# Altium footprint library UV16 PDU.PcbLib: 15 footprints
Each footprint in its own frame and in the unit in brackets; x right, y up, seen from the top. Pads: shape width x height; smd on the part's side, far side on the other; paste and mask are expansions set on the pad; w line width, h text height; cw(c..) or ccw(c..) is an arc to the next point about the centre after c.
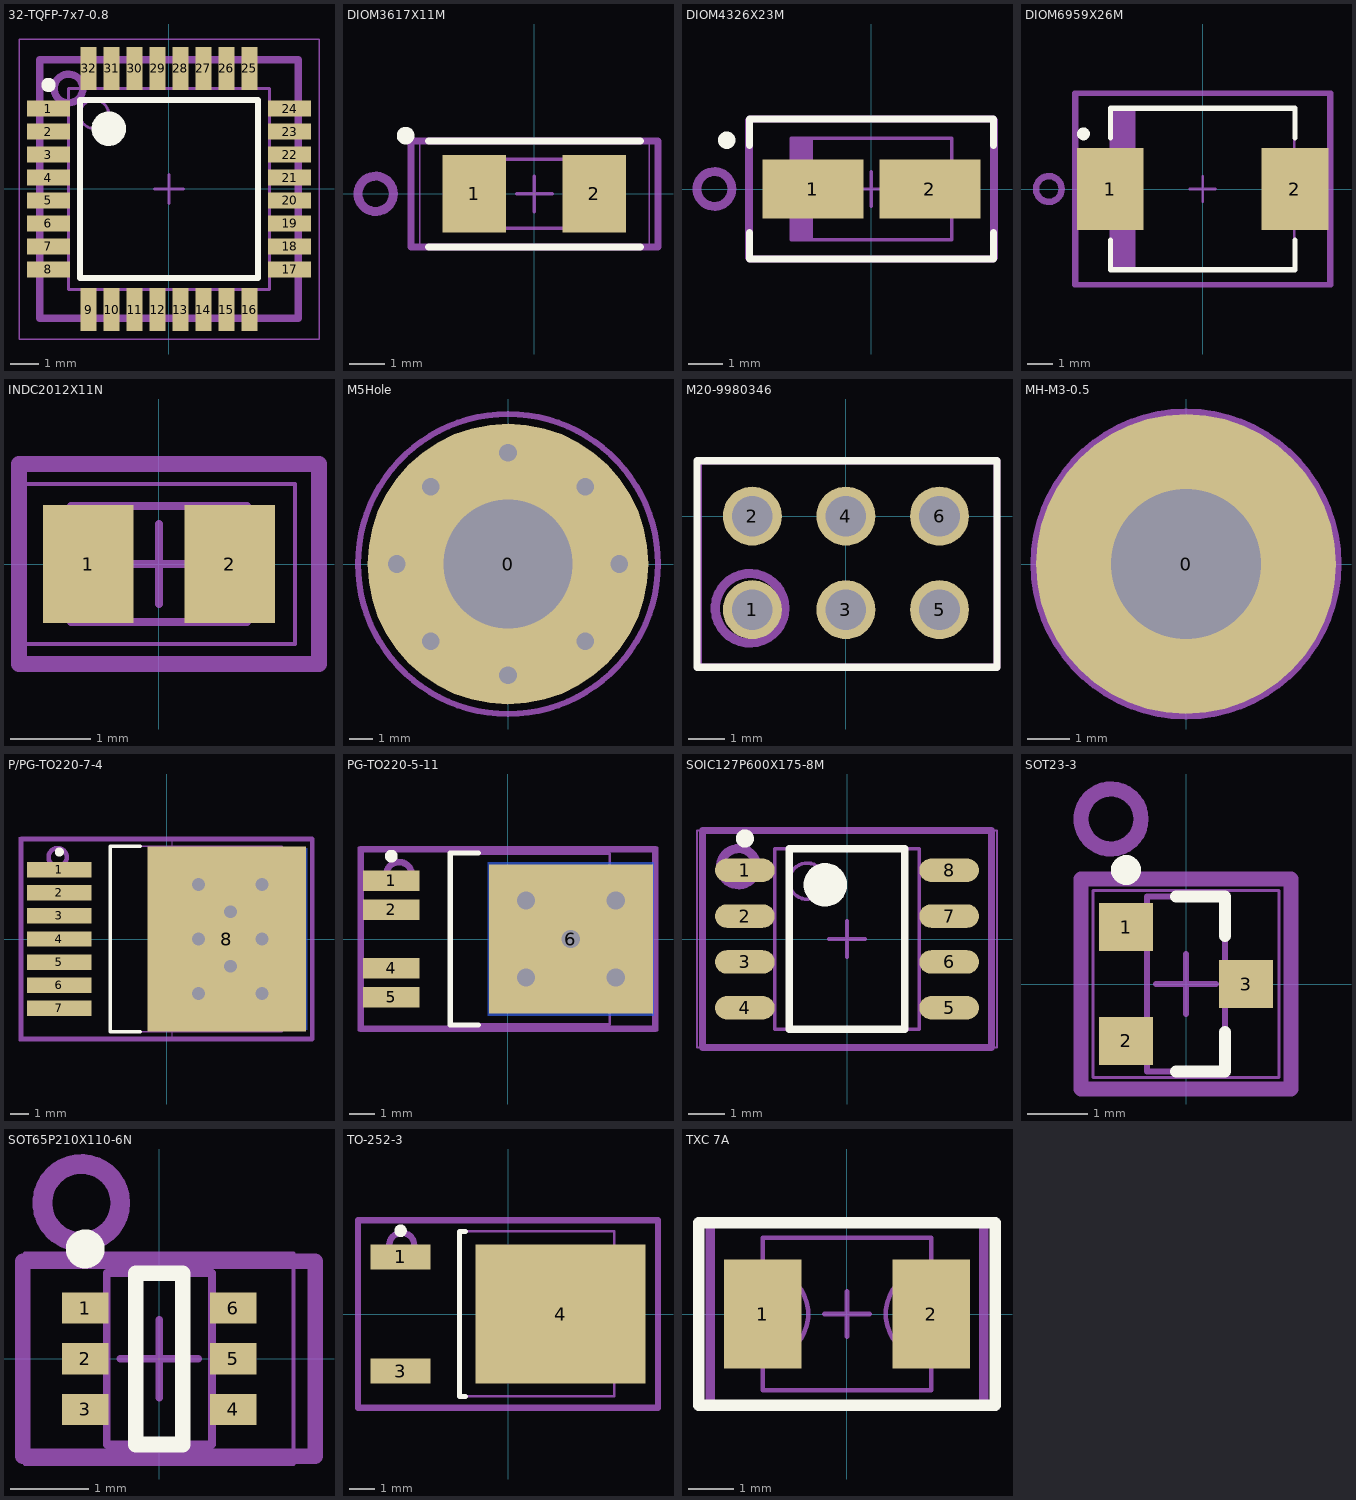
[diagram p0: the footprints below, top view; thin cyan lines are the x and y axes]

## 32-TQFP-7x7-0.8 [mm] "Thin QFP, 32-Leads, Body 7x7mm, Pitch 0.8mm, IPC Medium Density"
height 1.2
pads (32):
  rect 1.5x0.55 smd: 1(-4.2,2.8) 2(-4.2,2) 3(-4.2,1.2) 4(-4.2,0.4) 5(-4.2,-0.4) 6(-4.2,-1.2) 7(-4.2,-2) 8(-4.2,-2.8) 17(4.2,-2.8) 18(4.2,-2) 19(4.2,-1.2) 20(4.2,-0.4) 21(4.2,0.4) 22(4.2,1.2) 23(4.2,2) 24(4.2,2.8)
  rect 0.55x1.5 smd: 9(-2.8,-4.2) 10(-2,-4.2) 11(-1.2,-4.2) 12(-0.4,-4.2) 13(0.4,-4.2) 14(1.2,-4.2) 15(2,-4.2) 16(2.8,-4.2) 25(2.8,4.2) 26(2,4.2) 27(1.2,4.2) 28(0.4,4.2) 29(-0.4,4.2) 30(-1.2,4.2) 31(-2,4.2) 32(-2.8,4.2)
Top Overlay:
  circle w0.6: c-2.1,2.1 r0.3
  circle w0.25: c-4.2,3.625 r0.125
  lines w0.2: -3.1,-3.1 3.1,-3.1 3.1,3.1 -3.1,3.1 -3.1,-3.1
Mechanical 13:
  circle w0.1: c-2.6,2.6 r0.5
  lines w0.1: -3.5,-3.5 3.5,-3.5 3.5,3.5 -3.5,3.5 -3.5,-3.5
Mechanical 15:
  lines w0.05: -5.225,-5.225 5.225,-5.225 5.225,5.225 -5.225,5.225 -5.225,-5.225
  lines w0.1: -0.5,0 0.5,0 ; 0,-0.5 0,0.5
Mechanical 29:
  circle w0.254: c-3.5,3.5 r0.5
  lines w0.254: -4.5,-4.5 -4.5,4.5 4.5,4.5 4.5,-4.5 -4.5,-4.5
  text ".Designator" at -1.5,-0.5 h1.52
3D body "TQFP80P900X900X120-32N.step": height 1.2, standoff 0, extent -4.5,-4.5 4.5,4.5

## DIOM3617X11M [mm] "Molded Diode, 2-Leads, Body 3.60x1.72mm, IPC Low Density"
height 1.08
pads (2):
  rect 1.8x2.2 smd: 1(-1.7,0) 2(1.7,0)
Top Overlay:
  circle w0.25: c-3.65,1.65 r0.125
  lines w0.2: -3,-1.5 3,-1.5 ; -3,1.5 3,1.5
Mechanical 13:
  rectangle: -1.95,-0.975 -1.425,0.975
  lines w0.1: -1.95,-0.975 1.95,-0.975 1.95,0.975 -1.95,0.975 -1.95,-0.975
Mechanical 15:
  lines w0.05: -3.25,-1.5 3.25,-1.5 3.25,1.5 -3.25,1.5 -3.25,-1.5
  lines w0.1: -0.5,0 0.5,0 ; 0,-0.5 0,0.5
Mechanical 29:
  circle w0.254: c-4.5,0 r0.5
  lines w0.2: -3.5,-1.5 3.5,-1.5 3.5,1.5 -3.5,1.5 -3.5,-1.5
  text ".Designator" at -2.3,-0.9 h1.52
3D body: height 1.08, standoff 0, extent -1.95,-0.975 1.95,0.975

## DIOM4326X23M [mm] "Molded Diode, 2-Leads, Body 4.30x2.60mm, IPC Low Density"
height 2.3
pads (2):
  rect 2.9x1.7 smd: 1(-1.675,0) 2(1.675,0)
Top Overlay:
  circle w0.25: c-4.15,1.4 r0.125
  lines w0.2: -3.5,-1.25 -3.5,-2 3.5,-2 3.5,-1.25 ; -3.5,1.25 -3.5,2 3.5,2 3.5,1.25
Mechanical 13:
  rectangle: -2.3,-1.46 -1.681,1.46
  lines w0.1: -2.3,-1.46 -2.3,1.46 2.3,1.46 2.3,-1.46 -2.3,-1.46
Mechanical 15:
  lines w0.05: -3.6,-2 -3.6,2 3.6,2 3.6,-2 -3.6,-2
  lines w0.1: -0.5,0 0.5,0 ; 0,-0.5 0,0.5
Mechanical 29:
  circle w0.254: c-4.5,0 r0.5
  lines w0.2: -3.5,-2 3.5,-2 3.5,2 -3.5,2 -3.5,-2
  text ".Designator" at -2.3,-0.9 h1.52
3D body: height 2.3, standoff 0, extent -2.3,-1.46 2.3,1.46

## DIOM6959X26M [mm] "Molded Diode, 2-Leads, Body 6.88x5.90mm, IPC Low Density"
height 2.65
pads (2):
  rect 2.6x3.2 smd: 1(-3.6,0) 2(3.6,0)
Top Overlay:
  circle w0.25: c-4.65,2.15 r0.125
  lines w0.2: -3.6,-2 -3.6,-3.15 3.6,-3.15 3.6,-2 ; -3.6,2 -3.6,3.15 3.6,3.15 3.6,2
Mechanical 13:
  rectangle: -3.575,-3.125 -2.613,3.125
  lines w0.1: -3.575,-3.125 -3.575,3.125 3.575,3.125 3.575,-3.125 -3.575,-3.125
Mechanical 15:
  lines w0.05: -4.875,-3.65 -4.875,3.65 4.875,3.65 4.875,-3.65 -4.875,-3.65
  lines w0.1: -0.5,0 0.5,0 ; 0,-0.5 0,0.5
Mechanical 29:
  circle w0.254: c-6,0 r0.5
  lines w0.2: -5,-3.75 5,-3.75 5,3.75 -5,3.75 -5,-3.75
  text ".Designator" at -2.3,-0.9 h1.52
3D body: height 2.65, standoff 0, extent -3.575,-3.125 3.575,3.125

## INDC2012X11N [mm] "Chip Inductor, 2-Leads, Body 2.00x1.25mm, IPC Medium Density"
height 1.05
pads (2):
  rect 1.13x1.47 smd: 1(-0.885,0) 2(0.885,0)
Mechanical 13:
  lines w0.1: -1.1,-0.725 -1.1,0.725 1.1,0.725 1.1,-0.725 -1.1,-0.725
Mechanical 15:
  lines w0.05: -1.7,-1 -1.7,1 1.7,1 1.7,-1 -1.7,-1
  lines w0.1: -0.5,0 0.5,0 ; 0,-0.5 0,0.5
Mechanical 29:
  lines w0.2: -1.75,-1.25 2,-1.25 2,1.25 -1.75,1.25 -1.75,-1.25
  text ".Designator" at -1.25,-0.5 h0.8
3D body "INDC2012X11N.step": height 1.05, standoff 0, extent -1.1,-0.725 1.1,0.725

## M5Hole [mm]
pads (1):
  round 12 hole 5.5: 0(0,0)
via 3.3,3.3 diameter 1.27 hole 0.75
via 4.75,0 diameter 1.27 hole 0.75
via 0,-4.75 diameter 1.27 hole 0.75
via -4.75,0 diameter 1.27 hole 0.75
via 0,4.75 diameter 1.27 hole 0.75
via -3.3,3.3 diameter 1.27 hole 0.75
via -3.3,-3.3 diameter 1.27 hole 0.75
via 3.3,-3.3 diameter 1.27 hole 0.75
Mechanical 29:
  circle w0.254: c0,0 r6.408
  lines w0.254: -2.75,0 2.75,0 ; 0,-2.75 0,2.75
  text "M5" at -1.25,-5.25 h1.52

## M20-9980346 [mm]
pads (6):
  round 1.6 hole 1.1: 1(-2.54,-2.54) 2(-2.54,0) 3(0,-2.54) 4(0,0) 5(2.54,-2.54) 6(2.54,0)
Top Overlay:
  lines w0.2: -4.04,-4.1 4.1,-4.1 4.1,1.5 -4.04,1.5 -4.04,-4.1
Mechanical 29:
  circle w0.254: c-2.6,-2.5 r0.943
  lines w0.2: -4,-4.1 -4,1.5 4.1,1.5 4.1,-4.1 -4,-4.1
  text ".Designator" at -1.2,-1.9 h1.52
3D body "BG030-03-X-0450-0300-X-X_revG.step": height 7.13, standoff -2.91, extent -3.79,-3.84 3.83,-1.34
3D body "BG030-03-X-0450-0300-X-X_revG.step": height 7.13, standoff -2.91, extent -3.79,-1.3 3.83,1.2

## MH-M3-0.5 [mm]
pads (1):
  round 7 hole 3.5: 0(0,0)
Mechanical 29:
  circle w0.254: c0,0 r3.5
  lines w0.254: -1.75,0 1.75,0 ; 0,-1.75 0,1.75
  text "M3" at -1.25,4.5 h1.52

## P/PG-TO220-7-4 [mm] "DPAK, 7-Leads, Body 10x9.25mm, Pitch 1.27mm, IPC Low Density"
height 4.4
pads (8):
  rect 3.55x0.85 smd: 1(-5.9,3.81) 2(-5.9,2.54) 3(-5.9,1.27) 4(-5.9,0) 5(-5.9,-1.27) 6(-5.9,-2.54) 7(-5.9,-3.81)
  rect 8.7x10.15 smd: 8(3.3,0)
via 1.75,-3 diameter 1.27 hole 0.711
via 5.25,-3 diameter 1.27 hole 0.711
via 3.5,-1.5 diameter 1.27 hole 0.711
via 3.5,1.5 diameter 1.27 hole 0.711
via 5.25,3 diameter 1.27 hole 0.711
via 1.75,3 diameter 1.27 hole 0.711
via 1.75,0 diameter 1.27 hole 0.711
via 5.25,0 diameter 1.27 hole 0.711
Bottom Layer:
  rectangle: -1,-5 7.75,5
Top Overlay:
  circle w0.25: c-5.9,4.785 r0.125
  lines w0.2: -1.45,-5.1 -3.1,-5.1 -3.1,5.1 -1.45,5.1
Mechanical 13:
  lines w0.1: -3.1,-5.1 6.35,-5.1 6.35,5.1 -3.1,5.1 -3.1,-5.1
Mechanical 15:
  lines w0.05: -8.125,-5.6 0.3,-5.6 0.3,5.6 -8.125,5.6 -8.125,-5.6
  lines w0.1: -0.5,0 0.5,0 ; 0,-0.5 0,0.5
Mechanical 29:
  circle w0.254: c-6,4.5 r0.5
  lines w0.254: -8,-5.5 -8,5.5 8,5.5 8,-5.5 -8,-5.5
  text ".Designator" at -3.25,-0.5 h1.52
3D body "PG-TO220-7-4.STEP": height 4.5, standoff 0, extent -7.279,-5 6.641,5

## PG-TO220-5-11 [mm] "D-PAK, 5-Pads, Body 6.21x6.69mm (max), IPC Medium Density"
height 2.35
pads (5):
  rect 2.2x0.8 smd: 1(-4.55,2.28) 2(-4.55,1.14) 4(-4.55,-1.14) 5(-4.55,-2.28)
  rect 6.4x5.8 smd: 6(2.45,0)
via 4.2,1.5 diameter 1.27 hole 0.711
via 2.45,0 diameter 1.27 hole 0.711
via 0.7,1.5 diameter 1.27 hole 0.711
via 0.7,-1.5 diameter 1.27 hole 0.711
via 4.2,-1.5 diameter 1.27 hole 0.711
Bottom Layer:
  rectangle: -0.8,-3 5.7,3
Top Overlay:
  circle w0.25: c-4.55,3.23 r0.125
  lines w0.2: -1.15,-3.35 -2.25,-3.35 -2.25,3.35 -1.15,3.35
Mechanical 13:
  lines w0.1: -2.25,-3.325 -2.25,3.325 3.97,3.325 3.97,-3.325 -2.25,-3.325
Mechanical 15:
  lines w0.05: -5.85,-3.575 -5.85,3.575 5.85,3.575 5.85,-3.575 -5.85,-3.575
  lines w0.1: -0.5,0 0.5,0 ; 0,-0.5 0,0.5
Mechanical 29:
  circle w0.254: c-4.25,2.5 r0.5
  lines w0.254: -5.75,-3.5 5.75,-3.5 5.75,3.5 -5.75,3.5 -5.75,-3.5
  text ".Designator" at -2.75,-0.5 h1.52
3D body "PG-TO220-5-11.STEP": height 2.3, standoff -0.1, extent -4.909,-3.25 4.91,3.25

## SOIC127P600X175-8M [mm] "SOIC, 8-Leads, Body 4.90x3.90mm, Pitch 1.27mm, IPC Low Density"
height 1.75
pads (8):
  oval 1.65x0.65 smd: 1(-2.825,1.905) 2(-2.825,0.635) 3(-2.825,-0.635) 4(-2.825,-1.905) 5(2.825,-1.905) 6(2.825,-0.635) 7(2.825,0.635) 8(2.825,1.905)
Top Overlay:
  circle w0.6: c-0.6,1.5 r0.3
  circle w0.25: c-2.825,2.78 r0.125
  lines w0.2: -1.6,-2.5 1.6,-2.5 1.6,2.5 -1.6,2.5 -1.6,-2.5
Mechanical 13:
  circle w0.1: c-1.1,1.6 r0.5
  lines w0.1: -2,-2.5 2,-2.5 2,2.5 -2,2.5 -2,-2.5
Mechanical 15:
  lines w0.05: -4.15,-3 4.15,-3 4.15,3 -4.15,3 -4.15,-3
  lines w0.1: -0.5,0 0.5,0 ; 0,-0.5 0,0.5
Mechanical 29:
  circle w0.254: c-3,2 r0.5
  lines w0.2: -4,-3 -4,3 4,3 4,-3 -4,-3
  text ".Designator" at -2.3,-0.9 h1.52
3D body "SOIC127P600X175-8M.step": height 1.75, standoff 0, extent -3,-2.5 3,2.5

## SOT23-3 [mm] "SOT23, 3-Leads, Body 2.92x1.3mm, Pitch 0.95mm"
height 1.11
pads (3):
  rect 0.9x0.8 smd: 1(-1,0.95) 2(-1,-0.95) 3(1,0)
Top Overlay:
  circle w0.25: c-1,1.9 r0.125
  lines w0.2: -0.165,-1.46 0.65,-1.46 0.65,-0.8 ; -0.165,1.46 0.65,1.46 0.65,0.8
Mechanical 13:
  lines w0.1: -0.65,-1.46 -0.65,1.46 0.65,1.46 0.65,-1.46 -0.65,-1.46
Mechanical 15:
  lines w0.05: -1.55,-1.56 -1.55,1.56 1.55,1.56 1.55,-1.56 -1.55,-1.56
  lines w0.1: -0.5,0 0.5,0 ; 0,-0.5 0,0.5
Mechanical 29:
  circle w0.254: c-1.25,2.75 r0.5
  lines w0.254: -1.75,-1.75 -1.75,1.75 1.75,1.75 1.75,-1.75 -1.75,-1.75
  text ".Designator" at 0.25,-1 h0.8
3D body: height 1.11, standoff 0.01, extent -0.65,-1.46 0.65,1.46

## SOT65P210X110-6N [mm] "SOT23, 6-Leads, Body 2.00x2.10mm, Pitch 0.65mm, IPC Medium Density"
height 1.1
pads (6):
  rect 0.6x0.4 smd: 1(-0.95,0.65) 2(-0.95,0) 3(-0.95,-0.65) 4(0.95,-0.65) 5(0.95,0) 6(0.95,0.65)
Top Overlay:
  circle w0.25: c-0.95,1.41 r0.125
  lines w0.2: -0.3,-1.1 0.3,-1.1 0.3,1.1 -0.3,1.1 -0.3,-1.1
Mechanical 13:
  lines w0.1: -0.675,-1.1 -0.675,1.1 0.675,1.1 0.675,-1.1 -0.675,-1.1
Mechanical 15:
  lines w0.05: -1.725,-1.35 -1.725,1.35 1.725,1.35 1.725,-1.35 -1.725,-1.35
  lines w0.1: -0.5,0 0.5,0 ; 0,-0.5 0,0.5
Mechanical 29:
  circle w0.254: c-1,2 r0.5
  lines w0.2: -1.75,-1.25 -1.75,1.25 2,1.25 2,-1.25 -1.75,-1.25
  text ".Designator" at -1.25,-0.5 h0.8
3D body "SOT65P210X110-6N.step": height 1.1, standoff 0, extent -1.1,-1.1 1.1,1.1

## TO-252-3 [mm] "D-PAK, 4-Leads, Body 6.1x6.5mm, Pitch 2.28mm, Lead Span 9.7mm, IPC Low Density"
height 2.4
pads (3):
  rect 2.4x1 smd: 1(-4.3,2.28) 3(-4.3,-2.28)
  rect 6.8x5.55 smd: 4(2.1,0)
Top Overlay:
  circle w0.25: c-4.3,3.33 r0.125
  lines w0.2: -1.7,-3.3 -1.95,-3.3 -1.95,3.3 -1.7,3.3
Mechanical 13:
  lines w0.1: -1.95,-3.3 -1.95,3.3 4.25,3.3 4.25,-3.3 -1.95,-3.3
Mechanical 15:
  lines w0.05: -6,-3.8 -6,3.8 6,3.8 6,-3.8 -6,-3.8
  lines w0.1: -0.5,0 0.5,0 ; 0,-0.5 0,0.5
Mechanical 29:
  circle w0.254: c-4.25,2.75 r0.5
  lines w0.254: -6,-3.75 6,-3.75 6,3.75 -6,3.75 -6,-3.75
  text ".Designator" at -3.25,-0.5 h1.52
3D body "D-PAK.STEP": height 2.4, standoff 0, extent -4.699,-3.25 5.001,3.25

## TXC 7A [mm] "SMD Crystal"
height 1.35
pads (2):
  rect 1.7x2.4 smd: 1(-1.85,0) 2(1.85,0)
Top Overlay:
  lines w0.254: -3.25,-2 -3.25,2 3.25,2 3.25,-2 -3.25,-2
Mechanical 13:
  lines w0.1: -1.85,-1.675 -1.85,-1 ccw(c-1.85,0) -1.85,1 -1.85,1.675 1.85,1.675 1.85,1 ccw(c1.85,0) 1.85,-1 1.85,-1.675 -1.85,-1.675
Mechanical 15:
  lines w0.05: -3.29,-1.925 -3.29,1.925 3.29,1.925 3.29,-1.925 -3.29,-1.925
  lines w0.1: -0.5,0 0.5,0 ; 0,-0.5 0,0.5
Mechanical 29:
  lines w0.2: -3,-2 -3,2 3,2 3,-2 -3,-2
  text ".Designator" at -2.3,-0.9 h1.52
3D body: height 1.35, standoff 0, extent -2.575,-1.675 2.575,1.675